# EAGLE library part LT3652 (library calsat)
LT3652 LiPo Li-ion battery charging IC
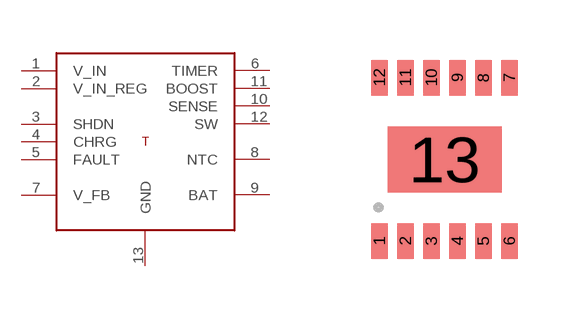
[diagram p2: symbol with the pads of MSOP12; footprint MSOP12]

Designator prefix T

## LT3652  [MSOP12]
1  V_IN
2  V_IN_REG
3  SHDN
4  CHRG
5  FAULT
6  TIMER
7  V_FB
8  NTC
9  BAT
10  SENSE
11  BOOST
12  SW
13  GND

## Footprint MSOP12 (pad centres in mm)
smd 0.42 x 0.889: 1 -1.63,-2.04; 2 -0.98,-2.04; 3 -0.33,-2.04; 4 0.32,-2.04; 5 0.97,-2.04; 6 1.62,-2.04; 7 1.62,2.05; 8 0.97,2.05; 9 0.32,2.05; 10 -0.33,2.05; 11 -0.98,2.05; 12 -1.63,2.05
smd 2.845 x 1.651: 13 0,0